# EAGLE library part ODROID-C2 (library connectors)
PIN HEADER
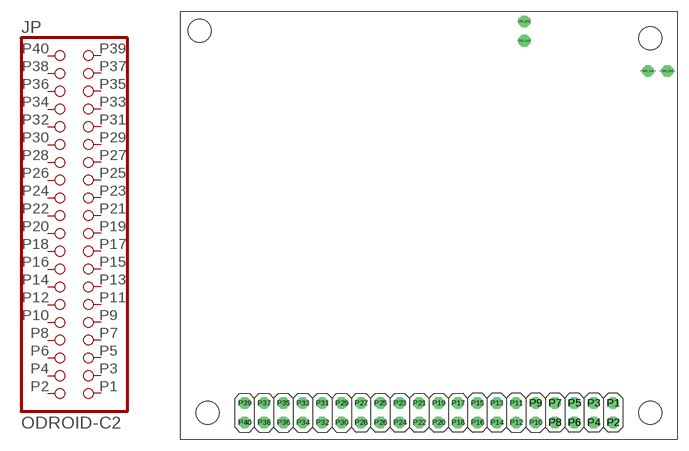
[diagram p3: symbol with the pads of 2X20; footprint 2X20]

Designator prefix JP

## ODROID-C2  [2X20]
P1  40  pas
P2  39  pas
P3  38  pas
P4  37  pas
P5  36  pas
P6  35  pas
P7  34  pas
P8  33  pas
P9  32  pas
P10  31  pas
P11  30  pas
P12  29  pas
P13  28  pas
P14  27  pas
P15  26  pas
P16  25  pas
P17  24  pas
P18  23  pas
P19  22  pas
P20  21  pas
P21  20  pas
P22  19  pas
P23  18  pas
P24  17  pas
P25  16  pas
P26  15  pas
P27  14  pas
P28  13  pas
P29  12  pas
P30  11  pas
P31  10  pas
P32  9  pas
P33  8  pas
P34  7  pas
P35  6  pas
P36  5  pas
P37  4  pas
P38  3  pas
P39  2  pas
P40  1  pas

## Footprint 2X20 (pad centres in mm)
PIN HEADER
drill 1.016 octagon: OTG_EN1 12.5,51.2; OTG_EN2 12.5,48.66; P1 24.13,1.27; P2 24.13,-1.27; P3 21.59,1.27; P4 21.59,-1.27; P5 19.05,1.27; P6 19.05,-1.27; P7 16.51,1.27; P8 16.51,-1.27; P9 13.97,1.27; P10 13.97,-1.27; P11 11.43,1.27; P12 11.43,-1.27; P13 8.89,1.27; P14 8.89,-1.27; P15 6.35,1.27; P16 6.35,-1.27; P17 3.81,1.27; P18 3.81,-1.27; P19 1.27,1.27; P20 1.27,-1.27; P21 -1.27,1.27; P22 -1.27,-1.27; P23 -3.81,1.27; P24 -3.81,-1.27; P25 -6.35,1.27; P26 -6.35,-1.27; P27 -8.89,1.27; P28 -8.89,-1.27; P29 -11.43,1.27; P30 -11.43,-1.27; P31 -13.97,1.27; P32 -13.97,-1.27; P33 -16.51,1.27; P34 -16.51,-1.27; P35 -19.05,1.27; P36 -19.05,-1.27; P37 -21.59,1.27; P38 -21.59,-1.27; P39 -24.13,1.27; P40 -24.13,-1.27; PWR_SW1 31.23,44.7; PWR_SW2 28.7,44.7
hole 3 at 29,0
hole 3 at 29,0
hole 3 at -29,0
hole 3 at -30,50
hole 3 at 29,49